# Altium schematic symbol library Conn_On_Shore_Technology_Inc._ED555-7DS_eec.SchLib: 1 symbol
Pins are listed as number, name and electrical type; pins without a type are passive.

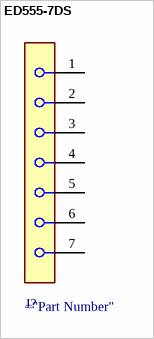
[diagram p0: symbol ED555-7DS]

## ED555-7DS
designator J?  (value not drawn)
pins: 1, 2, 3, 4, 5, 6, 7